# EAGLE library part OPA2376 (library OP_AMP)
OP-AMP
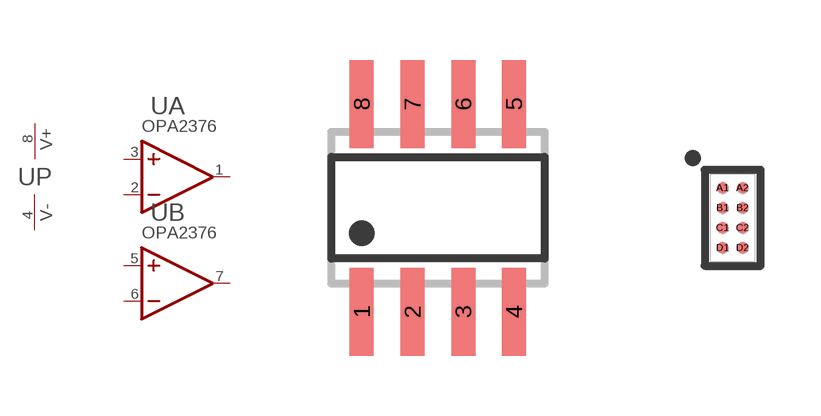
[diagram p1: symbol with the pads of SO08; footprints SO08, R-XBGA-N8]

Designator prefix U; gates A=OPAMP_NV B=OPAMP_NV P=PWRN_V+-

## OPA2376AID  [SO08]
1  A:OUT  out
2  A:-IN  in
3  A:+IN  in
4  P:V-  pwr
5  B:+IN  in
6  B:-IN  in
7  B:OUT  out
8  P:V+  pwr

## OPA2376AIYZD  [R-XBGA-N8]
A1  A:OUT  out
A2  P:V+  pwr
B1  A:-IN  in
B2  B:OUT  out
C1  A:+IN  in
C2  B:-IN  in
D1  P:V-  pwr
D2  B:+IN  in

## Footprint SO08 (pad centres in mm)
SMALL OUTLINE INTEGRATED CIRCUIT body 3.9 mm/JEDEC MS-012AA
smd 0.6 x 2.2: 1 -1.905,-2.6; 2 -0.635,-2.6; 3 0.635,-2.6; 4 1.905,-2.6; 5 1.905,2.6; 6 0.635,2.6; 7 -0.635,2.6; 8 -1.905,2.6

## Footprint R-XBGA-N8 (pad centres in mm)
TI WCSP-8 Die-Size Ball Grid Array
smd 0.275 x 0.275: A1 -0.25,0.75; A2 0.25,0.75; B1 -0.25,0.25; B2 0.25,0.25; C1 -0.25,-0.25; C2 0.25,-0.25; D1 -0.25,-0.75; D2 0.25,-0.75